# EAGLE library part VCNL4040M3OE (library VCNL4040M3OE)
VCNL4040 Fully Integrated Proximity and Ambient Light Sensor with Infrared Emitter, I2C Interface, and Interrupt Function: VCNL4040 integrates a proximity sensor (PS), ambient light sensor (ALS), and a high power IRED into one small package. It incorporates photodiodes, amplifiers, and analog to digital converting circuits into a single chip by CMOS process. The 16-bit high resolution ALS offers excellent sensing capabilities with sufficient selections to fulfill most applications whether dark or high transparency lens design. High and low interrupt thresholds can be programmed for both ALS and PS, allowing the component to use a minimal amount of the microcontrollers resources. Device Model created 15.06.2016 by Johannes Kolb - Vishay Semiconductor GmbH Check prices <https://pricing.snapeda.com/parts/VCNL4040M3OE/Vishay/view-part?ref=eda>
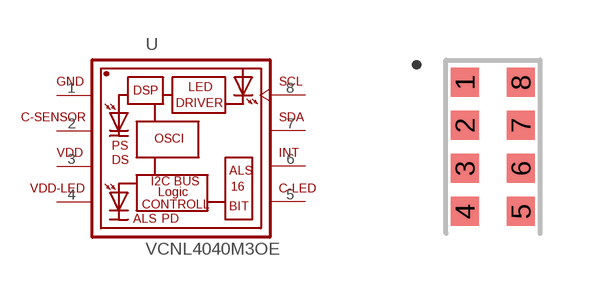
[diagram p0: symbol with the pads of VISHAY_VCNL4040_4X2X1.1; footprint VISHAY_VCNL4040_4X2X1.1]

Designator prefix U

## VCNL4040M3OE (Availability: In Stock; Description: Optical Sensor Ambient 550nm I²C 8-SMD Module; MF: Vishay; MP: VCNL4040M3OE; Package: SMD-8 Vishay; Price: None; Purchase-URL: https://pricing.snapeda.com/search/part/VCNL4040M3OE/?ref=eda)  [VISHAY_VCNL4040_4X2X1.1]
1  GND  pwr
2  C-SENSOR  out
3  VDD  pwr
4  VDD-LED  pwr
5  C-LED  out
6  INT  out
7  SDA
8  SCL  in

## Footprint VISHAY_VCNL4040_4X2X1.1 (pad centres in mm)
smd 0.7 x 0.725: 1 -0.7,1.613; 2 -0.7,0.537; 3 -0.7,-0.537; 4 -0.7,-1.613; 5 0.7,-1.613; 6 0.7,-0.537; 7 0.7,0.537; 8 0.7,1.613